# Altium footprint library Connector_Audio.PcbLib: 212 footprints (part 14 of 14)
Each footprint in its own frame and in the unit in brackets; x right, y up, seen from the top. Pads: shape width x height; smd on the part's side, far side on the other; paste and mask are expansions set on the pad; w line width, h text height; cw(c..) or ccw(c..) is an arc to the next point about the centre after c.
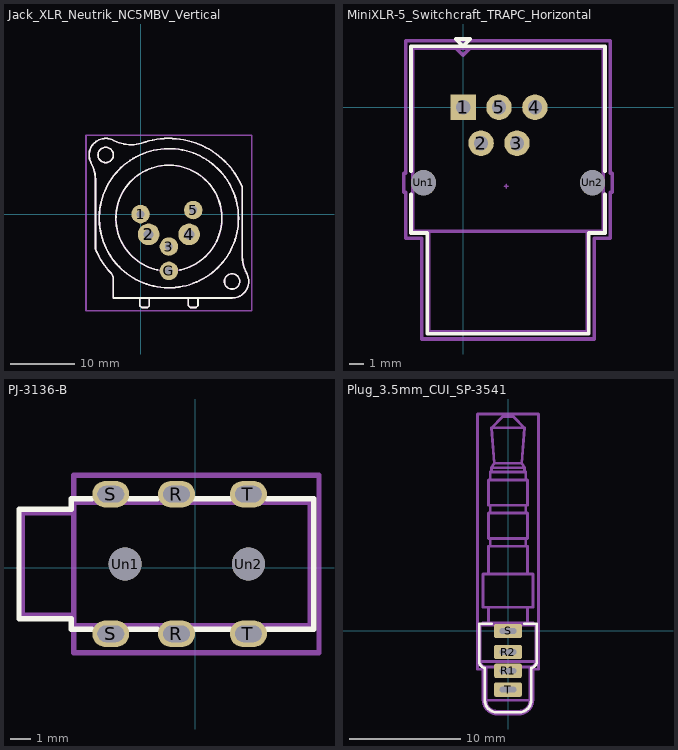
[diagram p13: the footprints below, top view; thin cyan lines are the x and y axes]

## Jack_XLR_Neutrik_NC5MBV_Vertical [mm]
pads (6):
  round 2.9 hole 1.2: 1(0,0) 3(4.445,-5.08) 5(8.255,0.635) G(4.445,-8.89)
  round 3.4 hole 1.6: 2(1.27,-3.175) 4(7.62,-3.175)
F.SilkS:
  circle w0.254: c14.345,-10.535 r1.2
  circle w0.254: c4.445,-0.635 r10.9
  circle w0.254: c-5.455,9.265 r1.2
  lines w0.254: -7.706,7.969 cw(c-13.04,5.23) -7.05,5.5 -7.05,-5.53 ccw(c4.445,-0.635) -4.578,-9.277 ; -7.702,7.96 cw(c-5.45,9.26) -4.13,11.5 ccw(c-1.46,16.94) 0.155,11.099 ; -4.577,-9.279 cw(c-5.3,-9.97) -4.3,-9.97 -4.3,-13.13 14.34,-13.13 ccw(c14.34,-10.53) 15.549,-12.832 ; -0.11,-13.13 -0.11,-14.33 0.19,-14.63 1.09,-14.63 1.39,-14.33 1.39,-13.13 ; 0.158,11.1 cw(c4.445,-0.635) 15.94,4.26 15.94,-6.77 ; 2.7,-8.75 cw(c4.445,-0.635) 6.166,-8.755 ; 7.5,-13.13 7.5,-14.33 7.8,-14.63 8.7,-14.63 9,-14.33 9,-13.13 ; 15.56,-12.83 ccw(c14.34,-10.53) 16.603,-9.242 ; 15.95,-6.77 ccw(c21.95,-6.51) 16.608,-9.253
Top Assembly:
  circle w0.254: c14.345,-10.535 r1.2
  circle w0.254: c4.445,-0.635 r10.9
  circle w0.254: c4.445,-0.635 r8.3
  circle w0.254: c-5.455,9.265 r1.2
  lines w0.254: -7.706,7.969 cw(c-13.04,5.23) -7.05,5.5 -7.05,-5.53 ccw(c4.445,-0.635) -4.578,-9.277 ; -7.702,7.96 cw(c-5.45,9.26) -4.13,11.5 ccw(c-1.46,16.94) 0.155,11.099 ; -4.577,-9.279 cw(c-5.3,-9.97) -4.3,-9.97 -4.3,-13.13 14.34,-13.13 ccw(c14.35,-10.53) 16.565,-9.168 ; -0.11,-13.13 -0.11,-14.33 0.19,-14.63 1.09,-14.63 1.39,-14.33 1.39,-13.13 ; 0.158,11.1 cw(c4.445,-0.635) 15.94,4.26 15.94,-6.77 ; 7.5,-13.13 7.5,-14.33 7.8,-14.63 8.7,-14.63 9,-14.33 9,-13.13 ; 15.95,-6.77 ccw(c21.95,-6.51) 16.574,-9.188
  text "'.Designator'" at 0.398,-0.475 h1
Top Courtyard:
  lines w0.254: -8.55,-15.13 17.45,-15.13 17.45,12.35 -8.55,12.35 -8.55,-15.13
Top Designator:
  text ".Designator" at -3.168,-1.898 h1.52

## MiniXLR-5_Switchcraft_TRAPC_Horizontal [mil]
pads (7):
  rect 70.87x70.87 hole 40: 1(0,0)
  round 70.87 hole 40: 2(50,-100) 4(200,0) 5(100,0)
  round 70.87 hole 39.37: 3(150,-100)
  round 70 hole 70: Un1(-110,-210) Un2(360,-210)
F.SilkS:
  lines w10: -145,-242.13 -145,-350 -100,-350 -100,-630 350,-630 350,-350 395,-350 395,-242.13 ; -145,-177.95 -145,170 395,170 395,-177.95 ; -20,190 20,190 0,170 -20,190
Top Component Center:
  lines w5: 115,-220 125,-220 ; 120,-225 120,-215
Top Assembly:
  lines w10: -95,-345 -95,-625 345,-625 345,-345 ; -20,165 0,145 20,165 ; -140,-345 -140,165 390,165 390,-345 -140,-345
  text "'.Designator'" at -19.32,-253.08 h39.37
Top Courtyard:
  lines w10: -164.57,-236.61 -164.57,-183.46 -159.84,-183.46 -159.84,184.65 409.84,184.65 409.84,-183.46 414.57,-183.46 414.57,-236.61 409.84,-236.61 409.84,-364.57 364.57,-364.57 364.57,-644.88 -114.57,-644.88 -114.57,-364.57 -159.84,-364.57 -159.84,-236.61 -164.57,-236.61
Top Designator:
  text ".Designator" at -174.9,-247.43 h60
Dwgs.User:
  text "PCB Edge" at 64.04,-361.27 h19.68

## PJ-3136-B [mm]
pads (8):
  rrect100% 1.8x1.3 hole 0.8 slot 1.3 at 0 deg: R(-0.917,-3.225) R(-0.917,3.575) S(-4.117,-3.225) S(-4.117,3.575) T(2.583,-3.225) T(2.583,3.575)
  round 1.6 hole 1.6: Un1(-3.417,0.175) Un2(2.583,0.175)
F.SilkS:
  lines w0.254: -5.028,-3 -6.044,-3 -6.044,-2.492 -8.584,-2.492 -8.584,2.842 -6.044,2.842 -6.044,3.35 -5.028,3.35 ; -3.25,-3 -1.853,-3 ; -3.25,3.35 -1.853,3.35 ; -0.075,-3 1.703,-3 ; -0.075,3.35 1.703,3.35 ; 3.481,-3 5.767,-3 5.767,3.35 3.481,3.35
B.SilkS:
  lines w0.254: -5.028,-3 -6.044,-3 -6.044,-2.492 -8.584,-2.492 -8.584,2.842 -6.044,2.842 -6.044,3.35 -5.028,3.35 ; -3.25,-3 -1.853,-3 ; -3.25,3.35 -1.853,3.35 ; -0.075,-3 1.703,-3 ; -0.075,3.35 1.703,3.35 ; 3.481,-3 5.767,-3 5.767,3.35 3.481,3.35
  text "'.Designator'" at 7.306,3.495 h0.81
Top Courtyard:
  lines w0.254: -5.917,-4.143 6.021,-4.143 6.021,4.493 -5.917,4.493 -5.917,-4.143
Bottom Courtyard:
  lines w0.254: -5.917,-4.143 6.021,-4.143 6.021,4.493 -5.917,4.493 -5.917,-4.143
Dwgs.User:
  lines w0.254: -8.417,-2.325 -5.917,-2.325 -5.917,-2.825 5.583,-2.825 5.583,3.175 -5.917,3.175 -5.917,2.675 -8.417,2.675 -8.417,-2.325
3D body "TRS Jack.stp": height 5.01, standoff -3.01, extent -8.229,-3.253 5.771,3.55

## Plug_3.5mm_CUI_SP-3541 [mm]
pads (4):
  rrect25% 2.5x1.3 hole 0.5 slot 1.5 at 0 deg: R1(0,-3.6) R2(0,-1.9) S(0,0) T(0,-5.3)
F.SilkS:
  lines w0.254: -1.5,0.65 -2.6,0.65 -2.6,-2.75 ccw(c-2,-2.75) -2.1,-3.342 -2.1,-6.25 ccw(c-1,-6.25) -1,-7.35 1,-7.35 ccw(c1,-6.25) 2.1,-6.25 2.1,-3.342 ccw(c2,-2.75) 2.6,-2.75 2.6,0.65 1.5,0.65
Top Assembly:
  lines w0.254: -2.25,0.55 -2.25,0.75 2.25,0.75 2.25,0.55 ; -1.75,0.75 -1.75,2.15 ; -1.75,5.15 -1.75,7.65 1.75,7.65 1.75,5.15 ; -1.6,7.65 -1.6,8.35 ; -1.6,10.65 -1.6,11.35 ; -1.6,13.65 -1.6,14.35 1.6,14.35 1.6,13.65 ; -1.5,14.35 -1.5,14.75 ; 1.5,14.35 1.5,14.75 ; 1.6,7.65 1.6,8.35 ; 1.6,10.65 1.6,11.35 ; 1.75,0.75 1.75,2.15 ; -2.5,-2.75 ccw(c-2,-2.75) -2,-3.25 ; -2.5,-2.75 2.5,-2.75 ; -2.5,-2.75 -2.5,0.55 2.5,0.55 2.5,-2.75 ; -2,-6.25 ccw(c-1,-6.25) -1,-7.25 1,-7.25 ccw(c1,-6.25) 2,-6.25 ; -2,-6.25 2,-6.25 ; -2,-6.25 -2,-3.25 ; -2,-3.25 2,-3.25 ; -1.5,14.75 -1.25,15.15 ; -1.5,14.75 1.5,14.75 ; -1.5,18.35 0,18.35 1.5,18.35 ; -1.5,18.35 -0.5,19.35 0.5,19.35 1.5,18.35 ; -1.5,18.35 -1.25,15.15 ; -1.25,15.15 0,15.15 1.25,15.15 ; 1.25,15.15 1.5,14.75 ; 1.25,15.15 1.5,18.35 ; 2,-6.25 2,-3.25 ; 2,-3.25 ccw(c2,-2.75) 2.5,-2.75 ; -2.25,2.15 2.25,2.15 2.25,5.15 -2.25,5.15 -2.25,2.15 ; -1.75,8.35 1.75,8.35 1.75,10.65 -1.75,10.65 -1.75,8.35 ; -1.75,11.35 1.75,11.35 1.75,13.65 -1.75,13.65 -1.75,11.35
  text "'.Designator'" at -4.097,-1.99 h1
Top Courtyard:
  lines w0.254: -2.75,-3.46 -2.25,-3.46 -2.25,-6.25 ccw(c-1,-6.25) -1,-7.5 1,-7.5 ccw(c1,-6.25) 2.25,-6.25 2.25,-3.46 2.75,-3.46 2.75,19.6 -2.75,19.6 -2.75,-3.46
Top Designator:
  text ".Designator" at -7.818,5.542 h1.52